# Altium footprint library power.PcbLib: 29 footprints (part 2 of 2)
Each footprint in its own frame and in the unit in brackets; x right, y up, seen from the top. Pads: shape width x height; smd on the part's side, far side on the other; paste and mask are expansions set on the pad; w line width, h text height; cw(c..) or ccw(c..) is an arc to the next point about the centre after c.
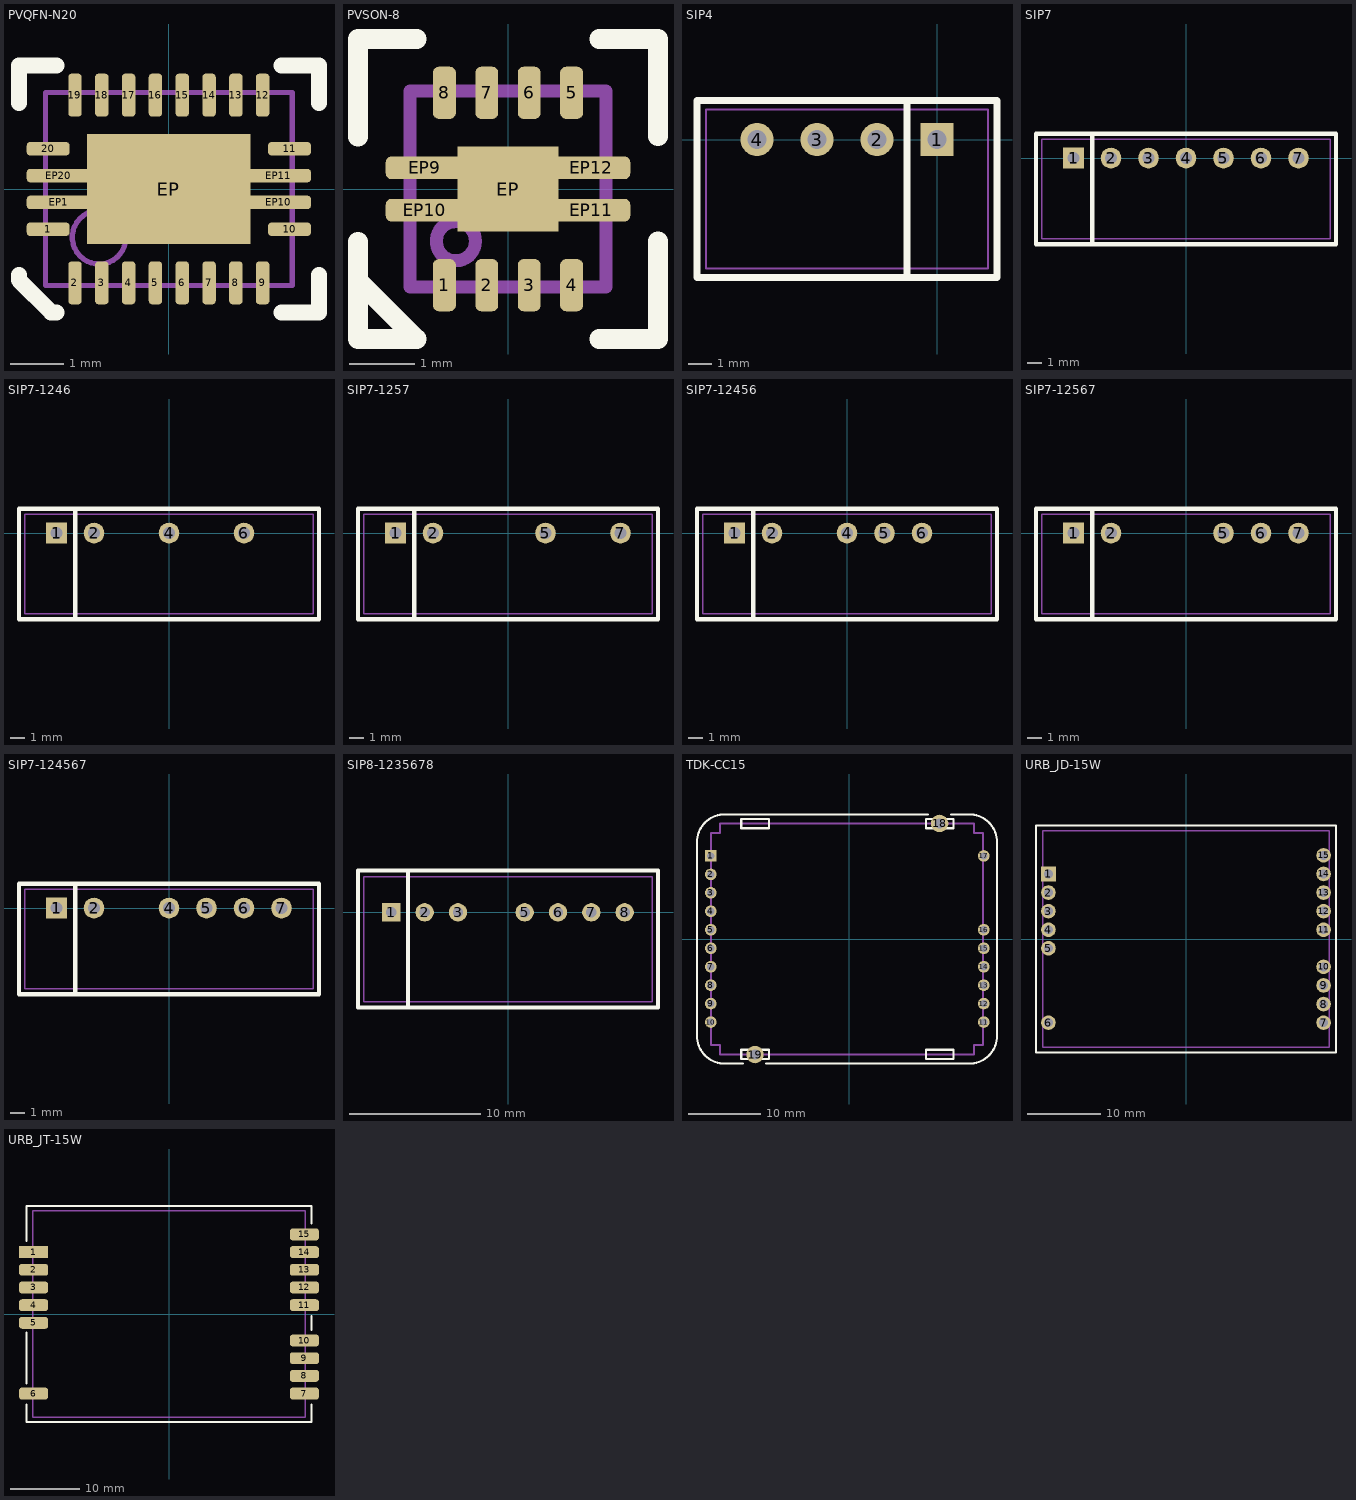
[diagram p1: the footprints below, top view; thin cyan lines are the x and y axes]

## PVQFN-N20 [mm]
height 1
pads (25):
  rrect50% 0.8x0.25 smd: 1(-2.25,-0.75) 10(2.25,-0.75) 11(2.25,0.75) 20(-2.25,0.75)
  rrect50% 0.25x0.8 smd: 2(-1.75,-1.75) 3(-1.25,-1.75) 4(-0.75,-1.75) 5(-0.25,-1.75) 6(0.25,-1.75) 7(0.75,-1.75) 8(1.25,-1.75) 9(1.75,-1.75) 12(1.75,1.75) 13(1.25,1.75) 14(0.75,1.75) 15(0.25,1.75) 16(-0.25,1.75) 17(-0.75,1.75) 18(-1.25,1.75) 19(-1.75,1.75)
  rect 3.05x2.05 smd paste-0.5: EP(0,0)
  rrect50% 1.2x0.25 smd: EP1(-2.05,-0.25) EP10(2.05,-0.25) EP11(2.05,0.25) EP20(-2.05,0.25)
Top Overlay:
  lines w0.3: -2.794,-1.6 -2.794,-1.7 -2.194,-2.3 -2.094,-2.3 ; -2.794,1.6 -2.794,2.3 -2.094,2.3 ; 2.1,-2.3 2.8,-2.3 2.8,-1.6 ; 2.1,2.3 2.8,2.3 2.8,1.6
Mechanical 1:
  circle w0.1: c-1.3,-0.9 r0.5
  lines w0.1: -2.3,-1.8 -2.3,1.8 2.3,1.8 2.3,-1.8 -2.3,-1.8
3D body: height 0.2, standoff 0, extent -0.875,1.75 -0.625,1.85
3D body: height 0.2, standoff 0, extent -0.375,1.75 -0.125,1.85
3D body: height 0.2, standoff 0, extent -1.875,1.75 -1.625,1.85
3D body: height 0.2, standoff 0, extent -1.375,1.75 -1.125,1.85
3D body: height 0.2, standoff 0, extent 0.625,1.75 0.875,1.85
3D body: height 0.2, standoff 0, extent 0.125,1.75 0.375,1.85
3D body: height 0.2, standoff 0, extent -2.35,-0.375 -2.25,-0.125
3D body: height 0.2, standoff 0, extent -2.35,-0.875 -2.25,-0.625
3D body: height 0.2, standoff 0, extent -2.35,0.625 -2.25,0.875
3D body: height 0.2, standoff 0, extent -2.35,0.125 -2.25,0.375
3D body: height 0.2, standoff 0, extent 2.25,0.625 2.35,0.875
3D body: height 0.2, standoff 0, extent 2.25,0.125 2.35,0.375
3D body: height 0.2, standoff 0, extent 2.25,-0.875 2.35,-0.625
3D body: height 0.2, standoff 0, extent 2.25,-0.375 2.35,-0.125
3D body: height 0.2, standoff 0, extent -0.375,-1.85 -0.125,-1.75
3D body: height 0.2, standoff 0, extent -0.875,-1.85 -0.625,-1.75
3D body: height 0.2, standoff 0, extent 0.625,-1.85 0.875,-1.75
3D body: height 0.2, standoff 0, extent 0.125,-1.85 0.375,-1.75
3D body: height 0.2, standoff 0, extent -1.875,-1.85 -1.625,-1.75
3D body: height 0.2, standoff 0, extent -1.375,-1.85 -1.125,-1.75
3D body: height 0.2, standoff 0, extent 1.125,1.75 1.375,1.85
3D body: height 0.2, standoff 0, extent 1.625,1.75 1.875,1.85
3D body: height 0.2, standoff 0, extent 1.125,-1.85 1.375,-1.75
3D body: height 0.2, standoff 0, extent 1.625,-1.85 1.875,-1.75
3D body: height 0.8, standoff 0, extent -2.28,-1.8 2.3,1.8

## PVSON-8 [mm] "0.65mm pitch"
height 1
pads (13):
  rrect50% 0.35x0.8 smd: 1(-0.975,-1.475) 2(-0.325,-1.475) 3(0.325,-1.475) 4(0.975,-1.475) 5(0.975,1.475) 6(0.325,1.475) 7(-0.325,1.475) 8(-0.975,1.475)
  rect 1.55x1.3 smd paste-0.35: EP(0,0)
  rrect50% 1.2x0.35 smd: EP9(-1.275,0.325) EP10(-1.275,-0.325) EP11(1.275,-0.325) EP12(1.275,0.325)
Top Overlay:
  lines w0.3: -2.3,-1.4 -1.4,-2.3 -2.3,-2.3 -2.3,-0.807 ; -2.3,0.8 -2.3,2.3 -1.4,2.3 ; 1.4,-2.3 2.3,-2.3 2.3,-0.8 ; 1.4,2.3 2.3,2.3 2.3,0.807
Mechanical 1:
  circle w0.2: c-0.8,-0.8 r0.3
  lines w0.2: -1.5,-1.5 1.5,-1.5 1.5,1.5 -1.5,1.5 -1.5,-1.5
3D body: height 0.8, standoff 0, extent -1.524,-1.524 1.524,1.524

## SIP4 [mm]
height 10
pads (4):
  rect 1.4x1.4 hole 0.8: 1(0,0)
  round 1.4 hole 0.8: 2(-2.54,0) 3(-5.08,0) 4(-7.62,0)
Top Overlay:
  lines w0.3: -1.27,-5.842 -1.27,1.651 ; -10.16,-5.842 2.54,-5.842 2.54,1.651 -10.16,1.651 -10.16,-5.842
Mechanical 1:
  lines w0.1: -9.779,-5.461 2.159,-5.461 2.159,1.27 -9.779,1.27 -9.779,-5.461
3D body: height 10, standoff 0.2, extent -9.779,-5.461 2.159,1.27
3D body: height 1, standoff -3, extent -7.87,-0.125 -7.37,0.125
3D body: height 1, standoff -3, extent -5.33,-0.125 -4.83,0.125
3D body: height 1, standoff -3, extent -2.79,-0.125 -2.29,0.125
3D body: height 1, standoff -3, extent -0.25,-0.125 0.25,0.125

## SIP7 [mm]
height 10
pads (7):
  rect 1.4x1.4 hole 0.8: 1(-7.62,0)
  round 1.4 hole 0.8: 2(-5.08,0) 3(-2.54,0) 4(0,0) 5(2.54,0) 6(5.08,0) 7(7.62,0)
Top Overlay:
  lines w0.3: -6.35,-5.842 -6.35,1.651 ; -10.16,-5.842 -10.16,1.651 10.16,1.651 10.16,-5.842 -10.16,-5.842
Mechanical 1:
  lines w0.1: -9.779,-5.461 -9.779,1.27 9.779,1.27 9.779,-5.461 -9.779,-5.461
3D body: height 10, standoff 0.2, extent -9.779,-5.461 9.779,1.27
3D body: height 1, standoff -3, extent -7.87,-0.125 -7.37,0.125
3D body: height 1, standoff -3, extent -5.33,-0.125 -4.83,0.125
3D body: height 1, standoff -3, extent -2.79,-0.125 -2.29,0.125
3D body: height 1, standoff -3, extent -0.25,-0.125 0.25,0.125
3D body: height 1, standoff -3, extent 2.29,-0.125 2.79,0.125
3D body: height 1, standoff -3, extent 4.83,-0.125 5.33,0.125
3D body: height 1, standoff -3, extent 7.37,-0.125 7.87,0.125

## SIP7-1246 [mm]
height 10
pads (4):
  rect 1.4x1.4 hole 0.8: 1(-7.62,0)
  round 1.4 hole 0.8: 2(-5.08,0) 4(0,0) 6(5.08,0)
Top Overlay:
  lines w0.3: -6.35,-5.842 -6.35,1.651 ; -10.16,-5.842 -10.16,1.651 10.16,1.651 10.16,-5.842 -10.16,-5.842
Mechanical 1:
  lines w0.1: -9.779,-5.461 9.779,-5.461 9.779,1.27 -9.779,1.27 -9.779,-5.461
3D body: height 10, standoff 0.2, extent -9.779,-5.461 9.779,1.27
3D body: height 1, standoff -3, extent -7.87,-0.125 -7.37,0.125
3D body: height 1, standoff -3, extent -5.33,-0.125 -4.83,0.125
3D body: height 1, standoff -3, extent -0.25,-0.125 0.25,0.125
3D body: height 1, standoff -3, extent 4.83,-0.125 5.33,0.125

## SIP7-1257 [mm]
height 10
pads (4):
  rect 1.4x1.4 hole 0.8: 1(-7.62,0)
  round 1.4 hole 0.8: 2(-5.08,0) 5(2.54,0) 7(7.62,0)
Top Overlay:
  lines w0.3: -6.35,-5.842 -6.35,1.651 ; -10.16,-5.842 -10.16,1.651 10.16,1.651 10.16,-5.842 -10.16,-5.842
Mechanical 1:
  lines w0.1: -9.779,-5.461 9.779,-5.461 9.779,1.27 -9.779,1.27 -9.779,-5.461
3D body: height 10, standoff 0.2, extent -9.779,-5.461 9.779,1.27
3D body: height 1, standoff -3, extent 7.37,-0.125 7.87,0.125
3D body: height 1, standoff -3, extent 2.29,-0.125 2.79,0.125
3D body: height 1, standoff -3, extent -5.33,-0.125 -4.83,0.125
3D body: height 1, standoff -3, extent -7.87,-0.125 -7.37,0.125

## SIP7-12456 [mm]
height 10
pads (5):
  rect 1.4x1.4 hole 0.8: 1(-7.62,0)
  round 1.4 hole 0.8: 2(-5.08,0) 4(0,0) 5(2.54,0) 6(5.08,0)
Top Overlay:
  lines w0.3: -6.35,-5.842 -6.35,1.651 ; -10.16,-5.842 -10.16,1.651 10.16,1.651 10.16,-5.842 -10.16,-5.842
Mechanical 1:
  lines w0.1: -9.779,-5.461 -9.779,1.27 9.779,1.27 9.779,-5.461 -9.779,-5.461
3D body: height 10, standoff 0.2, extent -9.779,-5.461 9.779,1.27
3D body: height 1, standoff -3, extent -7.87,-0.125 -7.37,0.125
3D body: height 1, standoff -3, extent -5.33,-0.125 -4.83,0.125
3D body: height 1, standoff -3, extent -0.25,-0.125 0.25,0.125
3D body: height 1, standoff -3, extent 2.29,-0.125 2.79,0.125
3D body: height 1, standoff -3, extent 4.83,-0.125 5.33,0.125

## SIP7-12567 [mm]
height 10
pads (5):
  rect 1.4x1.4 hole 0.8: 1(-7.62,0)
  round 1.4 hole 0.8: 2(-5.08,0) 5(2.54,0) 6(5.08,0) 7(7.62,0)
Top Overlay:
  lines w0.3: -6.35,-5.842 -6.35,1.651 ; -10.16,-5.842 10.16,-5.842 10.16,1.651 -10.16,1.651 -10.16,-5.842
Mechanical 1:
  lines w0.1: -9.779,-5.461 9.779,-5.461 9.779,1.27 -9.779,1.27 -9.779,-5.461
3D body: height 1, standoff -3, extent 7.37,-0.125 7.87,0.125
3D body: height 1, standoff -3, extent 4.83,-0.125 5.33,0.125
3D body: height 1, standoff -3, extent 2.29,-0.125 2.79,0.125
3D body: height 1, standoff -3, extent -5.33,-0.125 -4.83,0.125
3D body: height 1, standoff -3, extent -7.87,-0.125 -7.37,0.125
3D body: height 10, standoff 0.2, extent -9.779,-5.461 9.779,1.27

## SIP7-124567 [mm]
height 10
pads (6):
  rect 1.4x1.4 hole 0.8: 1(-7.62,0)
  round 1.4 hole 0.8: 2(-5.08,0) 4(0,0) 5(2.54,0) 6(5.08,0) 7(7.62,0)
Top Overlay:
  lines w0.3: -6.35,-5.842 -6.35,1.651 ; -10.16,-5.842 10.16,-5.842 10.16,1.651 -10.16,1.651 -10.16,-5.842
Mechanical 1:
  lines w0.1: -9.779,-5.461 9.779,-5.461 9.779,1.27 -9.779,1.27 -9.779,-5.461
3D body: height 1, standoff -3, extent -7.87,-0.125 -7.37,0.125
3D body: height 1, standoff -3, extent -5.33,-0.125 -4.83,0.125
3D body: height 1, standoff -3, extent -0.25,-0.125 0.25,0.125
3D body: height 1, standoff -3, extent 2.29,-0.125 2.79,0.125
3D body: height 1, standoff -3, extent 4.83,-0.125 5.33,0.125
3D body: height 1, standoff -3, extent 7.37,-0.125 7.87,0.125
3D body: height 10, standoff 0.2, extent -9.779,-5.461 9.779,1.27

## SIP8-1235678 [mm]
height 12
pads (7):
  rect 1.4x1.4 hole 0.8: 1(-8.89,0)
  round 1.4 hole 0.8: 2(-6.35,0) 3(-3.81,0) 5(1.27,0) 6(3.81,0) 7(6.35,0) 8(8.89,0)
Top Overlay:
  lines w0.3: -7.62,-7.239 -7.62,3.175 ; -11.43,-7.239 11.43,-7.239 11.43,3.175 -11.43,3.175 -11.43,-7.239
Mechanical 1:
  lines w0.1: -11,-6.8 11,-6.8 11,2.7 -11,2.7 -11,-6.8
3D body: height 1, standoff -3, extent 8.64,-0.125 9.14,0.125
3D body: height 1, standoff -3, extent -9.14,-0.125 -8.64,0.125
3D body: height 1, standoff -3, extent -6.6,-0.125 -6.1,0.125
3D body: height 1, standoff -3, extent -4.06,-0.125 -3.56,0.125
3D body: height 1, standoff -3, extent 1.02,-0.125 1.52,0.125
3D body: height 1, standoff -3, extent 3.56,-0.125 4.06,0.125
3D body: height 1, standoff -3, extent 6.1,-0.125 6.6,0.125
3D body: height 12, standoff 0.2, extent -11,-6.8 11,2.7

## TDK-CC15 [mm]
pads (19):
  rect 1.6x1.6 hole 1: 1(-19.05,11.43)
  round 1.6 hole 1: 2(-19.05,8.89) 3(-19.05,6.35) 4(-19.05,3.81) 5(-19.05,1.27) 6(-19.05,-1.27) 7(-19.05,-3.81) 8(-19.05,-6.35) 9(-19.05,-8.89) 10(-19.05,-11.43) 11(18.5,-11.43) 12(18.5,-8.89) 13(18.5,-6.35) 14(18.5,-3.81) 15(18.5,-1.27) 16(18.5,1.27) 17(18.5,11.43)
  round 2.4 hole 1.4: 18(12.425,15.9) 19(-12.975,-15.9)
Top Overlay:
  lines w0.3: -14.605,-17.145 -17.145,-17.145 cw(c-17.145,-13.335) -20.955,-13.335 -20.955,13.335 cw(c-17.145,13.335) -17.145,17.145 10.795,17.145 ; -11.43,-17.145 16.51,-17.145 ccw(c16.51,-13.335) 20.32,-13.335 20.32,13.335 ccw(c16.51,13.335) 16.51,17.145 13.97,17.145 ; -14.859,-16.51 -11.049,-16.51 -11.049,-15.24 -14.859,-15.24 -14.859,-16.51 ; -14.859,15.24 -11.049,15.24 -11.049,16.51 -14.859,16.51 -14.859,15.24 ; 10.541,-16.51 14.351,-16.51 14.351,-15.24 10.541,-15.24 10.541,-16.51 ; 10.541,15.24 14.351,15.24 14.351,16.51 10.541,16.51 10.541,15.24
Mechanical 1:
  lines w0.3: -19.05,-14.605 -19.05,14.605 -17.78,14.605 -17.78,15.875 17.145,15.875 17.145,14.605 18.415,14.605 18.415,-14.605 17.145,-14.605 17.145,-15.875 -17.78,-15.875 -17.78,-14.605 -19.05,-14.605

## URB_JD-15W [mm]
height 6.8
pads (15):
  rect 2x2 hole 1.2: 1(-18.8,8.89)
  round 2 hole 1.2: 2(-18.8,6.35) 3(-18.8,3.81) 4(-18.8,1.27) 5(-18.8,-1.27) 6(-18.8,-11.43) 7(18.8,-11.43) 8(18.8,-8.89) 9(18.8,-6.35) 10(18.8,-3.81) 11(18.8,1.27) 12(18.8,3.81) 13(18.8,6.35) 14(18.8,8.89) 15(18.8,11.43)
Top Overlay:
  lines w0.3: -20.5,-15.5 20.5,-15.5 20.5,15.5 -20.5,15.5 -20.5,-15.5
Mechanical 1:
  lines w0.2: -19.6,-14.8 -19.6,14.8 19.6,14.8 19.6,-14.8 -19.6,-14.8
3D body: height 3, standoff -3.6, extent 18.65,-4.11 18.95,-3.51
3D body: height 3, standoff -3.6, extent 18.65,-6.65 18.95,-6.05
3D body: height 3, standoff -3.6, extent 18.65,-9.19 18.95,-8.59
3D body: height 3, standoff -3.6, extent 18.65,-11.73 18.95,-11.13
3D body: height 3, standoff -3.6, extent 18.65,11.13 18.95,11.73
3D body: height 3, standoff -3.6, extent 18.65,8.59 18.95,9.19
3D body: height 3, standoff -3.6, extent 18.65,6.05 18.95,6.65
3D body: height 3, standoff -3.6, extent 18.65,3.51 18.95,4.11
3D body: height 3, standoff -3.6, extent 18.65,0.97 18.95,1.57
3D body: height 3, standoff -3.6, extent -18.95,-1.57 -18.65,-0.97
3D body: height 3, standoff -3.6, extent -18.95,0.97 -18.65,1.57
3D body: height 3, standoff -3.6, extent -18.95,3.51 -18.65,4.11
3D body: height 3, standoff -3.6, extent -18.95,6.05 -18.65,6.65
3D body: height 3, standoff -3.6, extent -18.95,8.59 -18.65,9.19
3D body: height 6.8, standoff 0.8, extent -19.6,-14.8 19.6,14.8
3D body: height 3, standoff -3.6, extent -18.95,-11.73 -18.65,-11.13

## URB_JT-15W [mm]
height 6.8
pads (15):
  rect 4.2x1.7 smd: 1(-19.45,8.89)
  rrect50% 4.2x1.7 smd: 2(-19.45,6.35) 3(-19.45,3.81) 4(-19.45,1.27) 5(-19.45,-1.27) 6(-19.45,-11.43) 7(19.45,-11.43) 8(19.45,-8.89) 9(19.45,-6.35) 10(19.45,-3.81) 11(19.45,1.27) 12(19.45,3.81) 13(19.45,6.35) 14(19.45,8.89) 15(19.45,11.43)
Top Overlay:
  lines w0.3: -20.5,-13 -20.5,-15.5 20.5,-15.5 20.5,-13 ; -20.5,-10 -20.5,-2.7 ; -20.5,10.5 -20.5,15.5 20.5,15.5 20.5,13 ; 20.5,-2.3 20.5,-0.3
Mechanical 1:
  lines w0.2: -19.6,-14.8 -19.6,14.8 19.6,14.8 19.6,-14.8 -19.6,-14.8
3D body: height 1.1, standoff 0, extent -20.066,8.64 -17.566,9.14
3D body: height 6.8, standoff 0.8, extent -19.6,-14.8 19.6,14.8
3D body: height 1.1, standoff 0, extent -20.066,6.1 -17.566,6.6
3D body: height 1.1, standoff 0, extent -20.066,3.56 -17.566,4.06
3D body: height 1.1, standoff 0, extent -20.066,1.02 -17.566,1.52
3D body: height 1.1, standoff 0, extent -20.066,-1.52 -17.566,-1.02
3D body: height 1.1, standoff 0, extent -20.066,-11.68 -17.566,-11.18
3D body: height 1.1, standoff 0, extent 17.566,11.18 20.066,11.68
3D body: height 1.1, standoff 0, extent 17.566,8.64 20.066,9.14
3D body: height 1.1, standoff 0, extent 17.566,6.1 20.066,6.6
3D body: height 1.1, standoff 0, extent 17.566,3.56 20.066,4.06
3D body: height 1.1, standoff 0, extent 17.566,1.02 20.066,1.52
3D body: height 1.1, standoff 0, extent 17.566,-4.06 20.066,-3.56
3D body: height 1.1, standoff 0, extent 17.566,-6.6 20.066,-6.1
3D body: height 1.1, standoff 0, extent 17.566,-9.14 20.066,-8.64
3D body: height 1.1, standoff 0, extent 17.566,-11.68 20.066,-11.18